# Altium integrated library 三极管.IntLib: 2 symbols
Pins are listed as number, name and electrical type; pins without a type are passive.

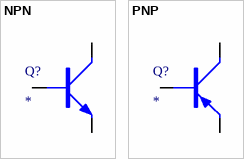
[diagram p0: symbols NPN to PNP]

## NPN
designator Q?
NPN三极管
footprint SOT-23
footprint TO126 (126晶体管)
footprint TO220A (220，3脚晶体管)
footprint TO220B (220，3脚晶体管)
footprint TO-92A
footprint TO-92B
footprint SOT523
footprint SOT523-L
footprint SOT523-M
pins: B, C, E
1 alternate drawing of the same symbol

## PNP
designator Q?
PNP三极管
footprint SOT-23
footprint TO126 (126晶体管)
footprint TO220A (220，3脚晶体管)
footprint TO220B (220，3脚晶体管)
footprint TO-92A
footprint TO-92B
pins: B, C, E